# EAGLE library part ATSAMD51N20A-AUT (library microfloat)
120MHZ 1024KB FLASH 100 TQFP PKG Check prices <https://pricing.snapeda.com/parts/ATSAMD51N20A-AU/Microchip/view-part?ref=eda>
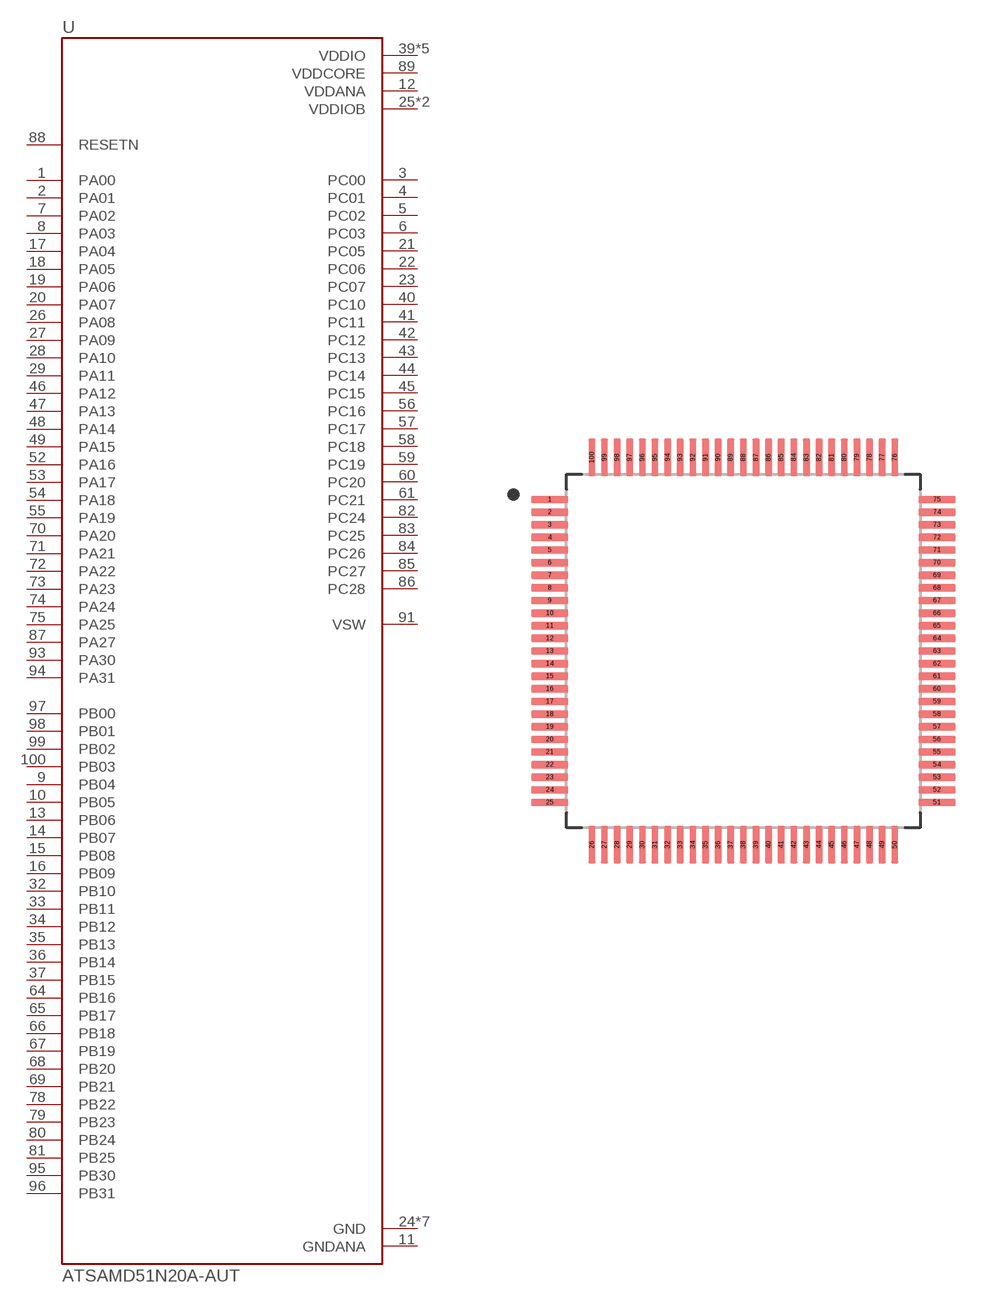
[diagram p1: symbol with the pads of QFP50P1600X1600X120-100N; footprint QFP50P1600X1600X120-100N]

Designator prefix U

## ATSAMD51N20A-AUT (AVAILABILITY: Warning; DESCRIPTION: ARM® Cortex®-M4F SAM D51 Microcontroller IC 32-Bit 120MHz 1MB (1M x 8) FLASH 100-TQFP (14x14); MF: Microchip; MP: ATSAMD51N20A-AU; PACKAGE: TQFP-100 Microchip; PRICE: None; PURCHASE-URL: https://pricing.snapeda.com/search/part/ATSAMD51N20A-AU/?ref=eda)  [QFP50P1600X1600X120-100N]
1  PA00
2  PA01
3  PC00
4  PC01
5  PC02
6  PC03
7  PA02
8  PA03
9  PB04
10  PB05
11  GNDANA  pwr
12  VDDANA  pwr
13  PB06
14  PB07
15  PB08
16  PB09
17  PA04
18  PA05
19  PA06
20  PA07
21  PC05
22  PC06
23  PC07
24  GND  pwr
25  VDDIOB  pwr
26  PA08
27  PA09
28  PA10
29  PA11
30  VDDIOB  pwr
31  GND  pwr
32  PB10
33  PB11
34  PB12
35  PB13
36  PB14
37  PB15
38  GND  pwr
39  VDDIO  pwr
40  PC10
41  PC11
42  PC12
43  PC13
44  PC14
45  PC15
46  PA12
47  PA13
48  PA14
49  PA15
50  GND  pwr
51  VDDIO  pwr
52  PA16
53  PA17
54  PA18
55  PA19
56  PC16
57  PC17
58  PC18
59  PC19
60  PC20
61  PC21
62  GND  pwr
63  VDDIO  pwr
64  PB16
65  PB17
66  PB18
67  PB19
68  PB20
69  PB21
70  PA20
71  PA21
72  PA22
73  PA23
74  PA24
75  PA25
76  GND  pwr
77  VDDIO  pwr
78  PB22
79  PB23
80  PB24
81  PB25
82  PC24
83  PC25
84  PC26
85  PC27
86  PC28
87  PA27
88  RESETN  in
89  VDDCORE  pwr
90  GND  pwr
91  VSW
92  VDDIO  pwr
93  PA30
94  PA31
95  PB30
96  PB31
97  PB00
98  PB01
99  PB02
100  PB03

## Footprint QFP50P1600X1600X120-100N (pad centres in mm)
smd 1.47 x 0.28: 1 -7.67,6; 2 -7.67,5.5; 3 -7.67,5; 4 -7.67,4.5; 5 -7.67,4; 6 -7.67,3.5; 7 -7.67,3; 8 -7.67,2.5; 9 -7.67,2; 10 -7.67,1.5; 11 -7.67,1; 12 -7.67,0.5; 13 -7.67,0; 14 -7.67,-0.5; 15 -7.67,-1; 16 -7.67,-1.5; 17 -7.67,-2; 18 -7.67,-2.5; 19 -7.67,-3; 20 -7.67,-3.5; 21 -7.67,-4; 22 -7.67,-4.5; 23 -7.67,-5; 24 -7.67,-5.5; 25 -7.67,-6; 51 7.67,-6; 52 7.67,-5.5; 53 7.67,-5; 54 7.67,-4.5; 55 7.67,-4; 56 7.67,-3.5; 57 7.67,-3; 58 7.67,-2.5; 59 7.67,-2; 60 7.67,-1.5; 61 7.67,-1; 62 7.67,-0.5; 63 7.67,0; 64 7.67,0.5; 65 7.67,1; 66 7.67,1.5; 67 7.67,2; 68 7.67,2.5; 69 7.67,3; 70 7.67,3.5; 71 7.67,4; 72 7.67,4.5; 73 7.67,5; 74 7.67,5.5; 75 7.67,6
smd 0.28 x 1.47: 26 -6,-7.67; 27 -5.5,-7.67; 28 -5,-7.67; 29 -4.5,-7.67; 30 -4,-7.67; 31 -3.5,-7.67; 32 -3,-7.67; 33 -2.5,-7.67; 34 -2,-7.67; 35 -1.5,-7.67; 36 -1,-7.67; 37 -0.5,-7.67; 38 0,-7.67; 39 0.5,-7.67; 40 1,-7.67; 41 1.5,-7.67; 42 2,-7.67; 43 2.5,-7.67; 44 3,-7.67; 45 3.5,-7.67; 46 4,-7.67; 47 4.5,-7.67; 48 5,-7.67; 49 5.5,-7.67; 50 6,-7.67; 76 6,7.67; 77 5.5,7.67; 78 5,7.67; 79 4.5,7.67; 80 4,7.67; 81 3.5,7.67; 82 3,7.67; 83 2.5,7.67; 84 2,7.67; 85 1.5,7.67; 86 1,7.67; 87 0.5,7.67; 88 0,7.67; 89 -0.5,7.67; 90 -1,7.67; 91 -1.5,7.67; 92 -2,7.67; 93 -2.5,7.67; 94 -3,7.67; 95 -3.5,7.67; 96 -4,7.67; 97 -4.5,7.67; 98 -5,7.67; 99 -5.5,7.67; 100 -6,7.67